# Altium footprint library AP2114H-3.3TRG1.PcbLib: 1 footprints
Each footprint in its own frame and in the unit in brackets; x right, y up, seen from the top. Pads: shape width x height; smd on the part's side, far side on the other; paste and mask are expansions set on the pad; w line width, h text height; cw(c..) or ccw(c..) is an arc to the next point about the centre after c.
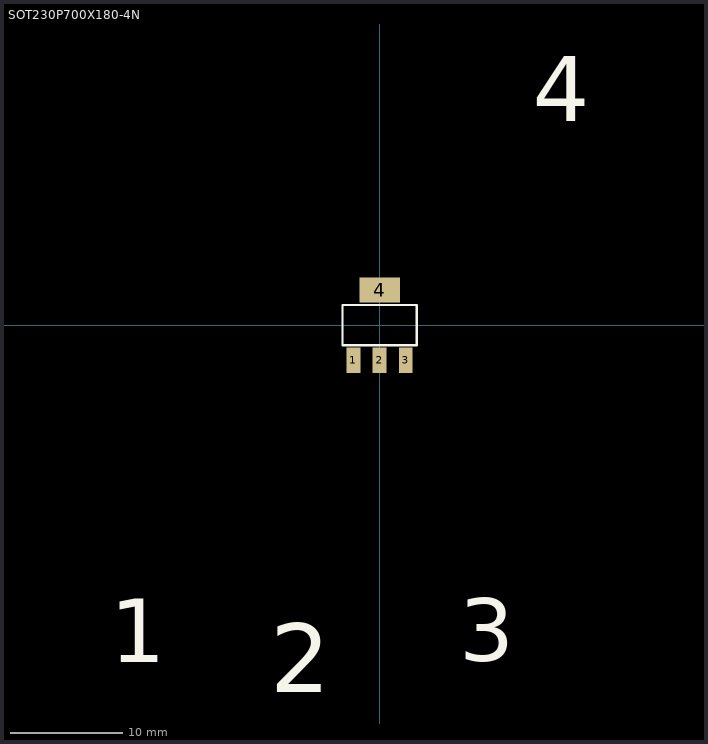
[diagram p0: the footprint, top view; thin cyan lines are the x and y axes]

## SOT230P700X180-4N [mil]
pads (4):
  rect 48x88 smd: 1(-91,-122) 2(0,-122) 3(91,-122)
  rect 141.73x86.61 smd: 4(0,122.01)
Top Overlay:
  lines w8: -129,-70 -129,70 129,70 129,-70 -129,-70
  text "2" at -381.56,-1279.46 h240.31
  text "1" at -939.61,-1175.27 h221.2
  text "4" at 533.5,711.37 h227.63
  text "3" at 277.05,-1171.86 h220.59